# EAGLE library part FSA642 (library FSA642)
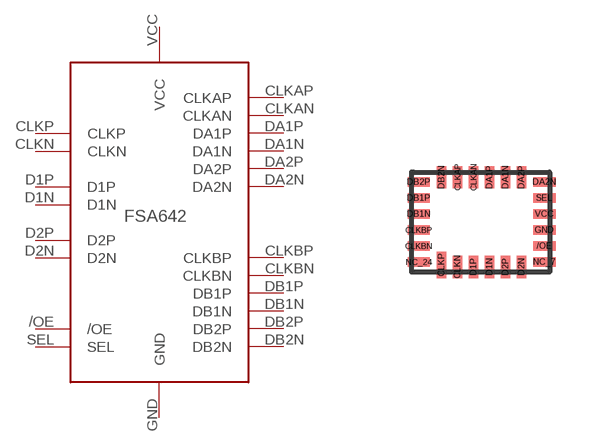
[diagram p0: symbol with the pads of UMLP-24; footprint UMLP-24]

Designator prefix -

## FSA642  [UMLP-24]
/OE  /OE
CLKAN  CLKAN
CLKAP  CLKAP
CLKBN  CLKBN
CLKBP  CLKBP
CLKN  CLKN
CLKP  CLKP
D1N  D1N
D1P  D1P
D2N  D2N
D2P  D2P
DA1N  DA1N
DA1P  DA1P
DA2N  DA2N
DA2P  DA2P
DB1N  DB1N
DB1P  DB1P
DB2N  DB2N
DB2P  DB2P
GND  GND
SEL  SEL
VCC  VCC

## Footprint UMLP-24 (pad centres in mm)
smd 0.56 x 0.23: /OE 1.57,-0.6; CLKBN -1.57,-0.6; CLKBP -1.57,-0.2; DA2N 1.57,1; DB1N -1.57,0.2; DB1P -1.57,0.6; DB2P -1.57,1; GND 1.57,-0.2; NC_7 1.57,-1; NC_24 -1.57,-1; SEL 1.57,0.6; VCC 1.57,0.2
smd 0.23 x 0.56: CLKAN -0.2,1.12; CLKAP -0.6,1.12; CLKN -0.6,-1.12; D1N 0.2,-1.12; D1P -0.2,-1.12; D2N 1,-1.12; D2P 0.6,-1.12; DA1N 0.6,1.12; DA1P 0.2,1.12; DA2P 1,1.12; DB2N -1,1.12
smd 0.23 x 0.66: CLKP -1,-1.07